# EAGLE library part PCF8594C (library nxp_60_1_1)
The PCF8594C-2 is a ?oating gate Electrically Erasable Programmable Read Only Memory (EEPROM) with 4 kbits (512 × 8-bit) non-volatile storage. AAL Eindhoven MK
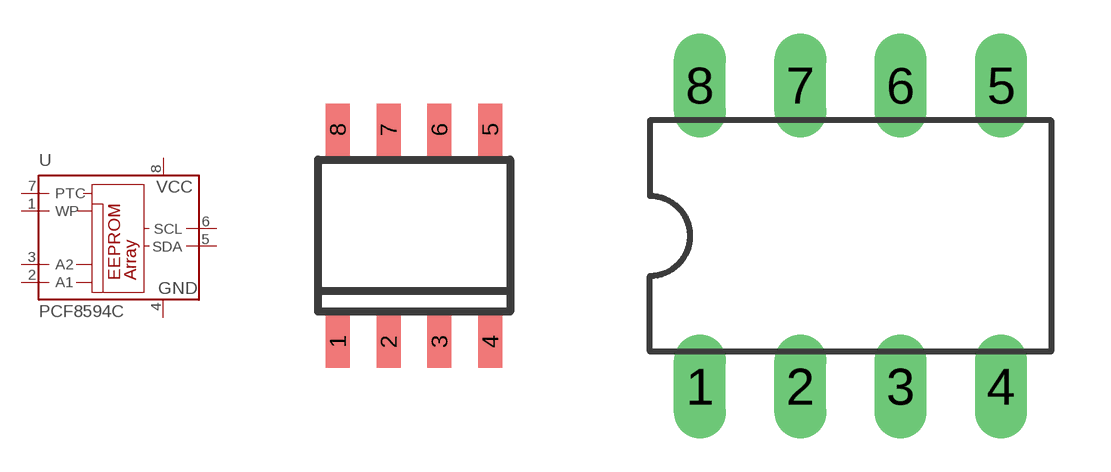
[diagram p18: symbol with the pads of SOT96-1; footprints SOT96-1, SOT97-1]

Designator prefix U

## PCF8594CC-2T/02 (SAMPLEDESK: 12NC935195550118)  [SOT96-1]
1  WP  in
2  A1  in
3  A2  in
4  GND  pwr
5  SDA
6  SCL  in
7  PTC
8  VCC  pwr

## PCF8594CC-2P/02  [SOT97-1]
Pads as for SOT96-1

## Footprint SOT96-1 (pad centres in mm)
SOT96-1 SO8: plastic small outline package; 8 leads; body width 3.9 mm JEDEC: MS-012 IEC: 076E03
smd 0.6 x 1.3: 1 -1.905,-2.65; 2 -0.635,-2.65; 3 0.635,-2.65; 4 1.905,-2.65; 5 1.905,2.65; 6 0.635,2.65; 7 -0.635,2.65; 8 -1.905,2.65

## Footprint SOT97-1 (pad centres in mm)
Dual In Line Package
drill 0.813 long: 1 -3.81,-3.81; 2 -1.27,-3.81; 3 1.27,-3.81; 4 3.81,-3.81; 5 3.81,3.81; 6 1.27,3.81; 7 -1.27,3.81; 8 -3.81,3.81